# EAGLE library part LASSEN_IQ_GPS (library SparkFun)
Lassen iq 12-Channel GPS receiver. Schematic and footprint production proven. Spark Fun Electronics SKU : GPS-00163. Surface mount mating connector : GPS-00170
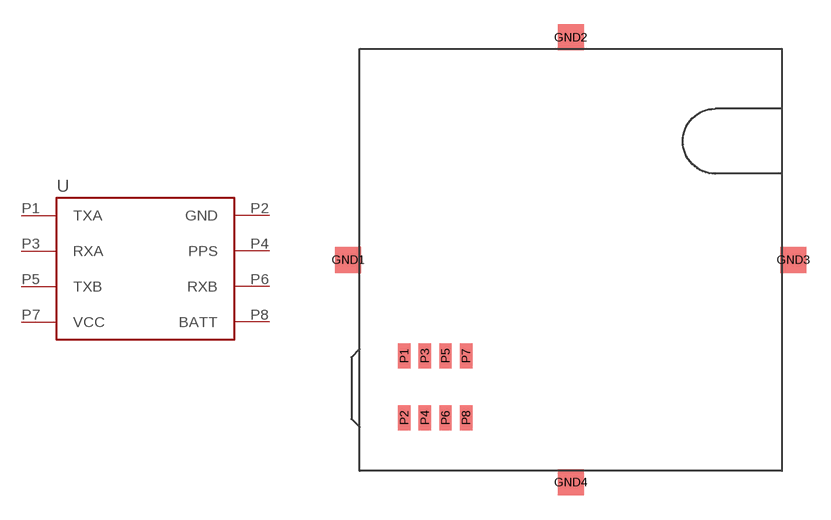
[diagram p10: symbol with the pads of LASSEN_IQ_GPS; footprint LASSEN_IQ_GPS]

Designator prefix -

## LASSEN_IQ_GPS  [LASSEN_IQ_GPS]
P1  TXA
P2  GND  pwr
P3  RXA
P4  PPS
P5  TXB
P6  RXB
P7  VCC  pwr
P8  BATT

## Footprint LASSEN_IQ_GPS (pad centres in mm)
smd 1.6 x 1.6: GND1 -0.7,13; GND2 13,26.7; GND3 26.7,13; GND4 13,-0.7
smd 0.762 x 1.524: P1 2.752,7.076; P2 2.752,3.266; P3 4.022,7.076; P4 4.022,3.266; P5 5.292,7.076; P6 5.292,3.266; P7 6.562,7.076; P8 6.562,3.266